# Altium footprint library IDTILab.PcbLib: 105 footprints (part 7 of 7)
Each footprint in its own frame and in the unit in brackets; x right, y up, seen from the top. Pads: shape width x height; smd on the part's side, far side on the other; paste and mask are expansions set on the pad; w line width, h text height; cw(c..) or ccw(c..) is an arc to the next point about the centre after c.
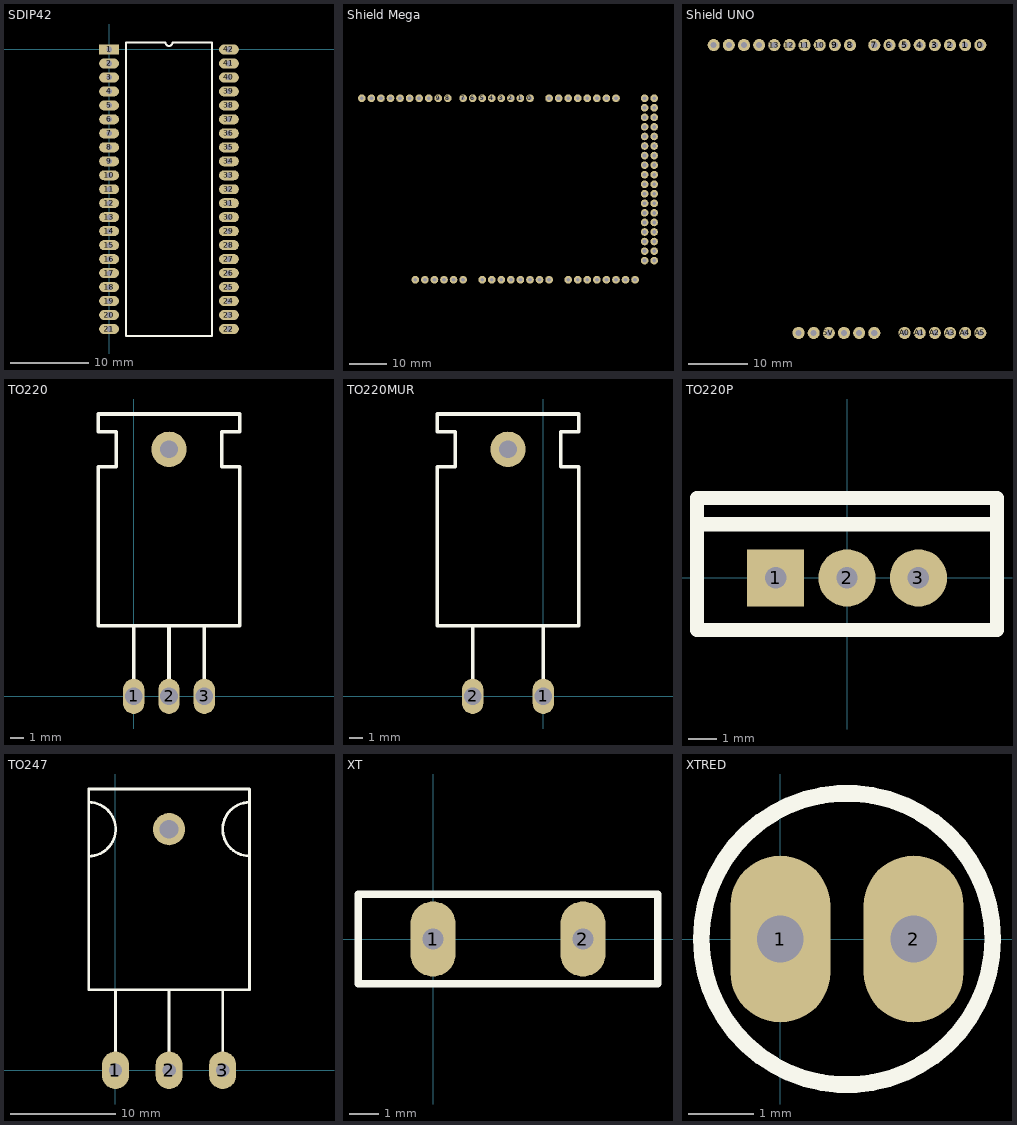
[diagram p6: the footprints below, top view; thin cyan lines are the x and y axes]

## SDIP42 [mil]
pads (42):
  rect 100x50 hole 28: 1(0,0)
  oval 100x50 hole 28: 2(0,-70) 3(0,-140) 4(0,-210) 5(0,-280) 6(0,-350) 7(0,-420) 8(0,-490) 9(0,-560) 10(0,-630) 11(0,-700) 12(0,-770) 13(0,-840) 14(0,-910) 15(0,-980) 16(0,-1050) 17(0,-1120) 18(0,-1190) 19(0,-1260) 20(0,-1330) 21(0,-1400) 22(600,-1400) 23(600,-1330) 24(600,-1260) 25(600,-1190) 26(600,-1120) 27(600,-1050) 28(600,-980) 29(600,-910) 30(600,-840) 31(600,-770) 32(600,-700) 33(600,-630) 34(600,-560) 35(600,-490) 36(600,-420) 37(600,-350) 38(600,-280) 39(600,-210) 40(600,-140) 41(600,-70) 42(600,0)
Top Overlay:
  lines w10: 85,-1435 85,35 282.5,35 ccw(c300,35) 317.5,35 515,35 515,-1435 85,-1435

## Shield Mega [mil]
pads (84):
  round 80 hole 40: 0(2500,5000) 1(2400,5000) 2(2300,5000) 3(2200,5000) 3V3(1400,3100) 4(2100,5000) 5(2000,5000) 5V(1500,3100) 6(1900,5000) 7(1800,5000) 8(1640,5000) 9(1540,5000) 10(1440,5000) 11(1340,5000) 12(1240,5000) 13(1140,5000) 14(2700,5000) 15(2800,5000) 16(2900,5000) 17(3000,5000) 18(3100,5000) 19(3200,5000) 20(3300,5000) 21(3400,5000) 22(3700,4900) 23(3800,4900) 24(3700,4800) 25(3800,4800) 26(3700,4700) 27(3800,4700) 28(3700,4600) 29(3800,4600) 30(3700,4500) 31(3800,4500) 32(3700,4400) 33(3800,4400) 34(3700,4300) 35(3800,4300) 36(3700,4200) 37(3800,4200) 38(3700,4100) 39(3800,4100) 40(3700,4000) 41(3800,4000) 42(3700,3900) 43(3800,3900) 44(3700,3800) 45(3800,3800) 46(3700,3700) 47(3800,3700) 48(3700,3600) 49(3800,3600) 50(3700,3500) 51(3800,3500) 52(3700,3400) 53(3800,3400) A0(2000,3100) A1(2100,3100) A2(2200,3100) A3(2300,3100) A4(2400,3100) A5(2500,3100) A6(2600,3100) A7(2700,3100) A8(2900,3100) A9(3000,3100) A10(3100,3100) A11(3200,3100) A12(3300,3100) A13(3400,3100) A14(3500,3100) A15(3600,3100) AREF(940,5000) GNDa(3700,3300) GNDb(3800,3300) GNDc(1600,3100) GNDd(1700,3100) GNDs(1040,5000) RESET(1300,3100) SCL(740,5000) SDA(840,5000) VCCa(3700,5000) VCCb(3800,5000) VIN(1800,3100)

## Shield UNO [mil]
pads (30):
  round 80 hole 40: 0(2500,5000) 1(2400,5000) 2(2300,5000) 3(2200,5000) 3V3(1400,3100) 4(2100,5000) 5(2000,5000) 5V(1500,3100) 6(1900,5000) 7(1800,5000) 8(1640,5000) 9(1540,5000) 10(1440,5000) 11(1340,5000) 12(1240,5000) 13(1140,5000) A0(2000,3100) A1(2100,3100) A2(2200,3100) A3(2300,3100) A4(2400,3100) A5(2500,3100) AREF(940,5000) GNDc(1600,3100) GNDd(1700,3100) GNDs(1040,5000) RESET(1300,3100) SCL(740,5000) SDA(840,5000) VIN(1800,3100)

## TO220 [mil]
pads (4):
  oval 60x100 hole 50: 1(0,0) 2(100,0) 3(200,0)
  round 100 hole 50: ""(100,700)
Top Overlay:
  lines w10: 0,0 0,200 ; 100,0 100,200 ; 200,0 200,200 ; -100,200 -100,650 -50,650 -50,750 -100,750 -100,800 300,800 300,750 250,750 250,650 300,650 300,200 -100,200

## TO220MUR [mil]
pads (3):
  oval 60x100 hole 50: 1(0,0) 2(-200,0)
  round 100 hole 50: ""(-100,700)
Top Overlay:
  lines w10: -200,0 -200,200 ; 0,0 0,200 ; -300,200 -300,650 -250,650 -250,750 -300,750 -300,800 100,800 100,750 50,750 50,650 100,650 100,200 -300,200

## TO220P [mil] "TO220 Parado"
pads (3):
  rect 80x80 hole 30: 1(-100,0)
  round 80 hole 30: 2(0,0) 3(100,0)
Top Overlay:
  lines w20: -210,75 210,75 ; -210,-73 -210,112 210,112 210,-73 -210,-73

## TO247 [mil]
pads (4):
  oval 100x140 hole 50: 1(0,0) 2(200,0) 3(400,0)
  round 120 hole 70: ""(200,900)
Top Overlay:
  lines w10: -100,799.5 ccw(c-100,900) -100,1000.5 ; 0,0 0,300 ; 200,0 200,300 ; 400,0 400,300 ; 500,800 cw(c500,900) 500,1000 ; -100,300 500,300 500,1050 -100,1050 -100,300

## XT [mil]
pads (2):
  oval 60x100 hole 28: 1(0,0) 2(200,0)
Top Overlay:
  lines w10: -100,-60 -100,0 -100,60 300,60 300,-60 -100,-60

## XTRED [mil]
pads (2):
  oval 60x100 hole 28: 1(0,0) 2(80,0)
Top Overlay:
  circle w10: c40,0 r87.46